# Altium schematic symbol library LCD-HD44780.SchLib: 1 symbol
Pins are listed as number, name and electrical type; pins without a type are passive.

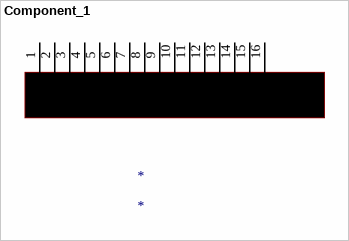
[diagram p0: symbol Component_1]

## Component_1
designator *
pins: 1 GND, 2 VCC, 3 VEE, 4 RS, 5 R/W, 6 E, 7 D0, 8 D1, 9 D2, 10 D3, 11 D4, 12 D5, 13 D6, 14 D7, 15 BLA, 16 BLK